# Altium footprint library CMX60D20.PCBLIB: 1 footprints
Each footprint in its own frame and in the unit in brackets; x right, y up, seen from the top. Pads: shape width x height; smd on the part's side, far side on the other; paste and mask are expansions set on the pad; w line width, h text height; cw(c..) or ccw(c..) is an arc to the next point about the centre after c.
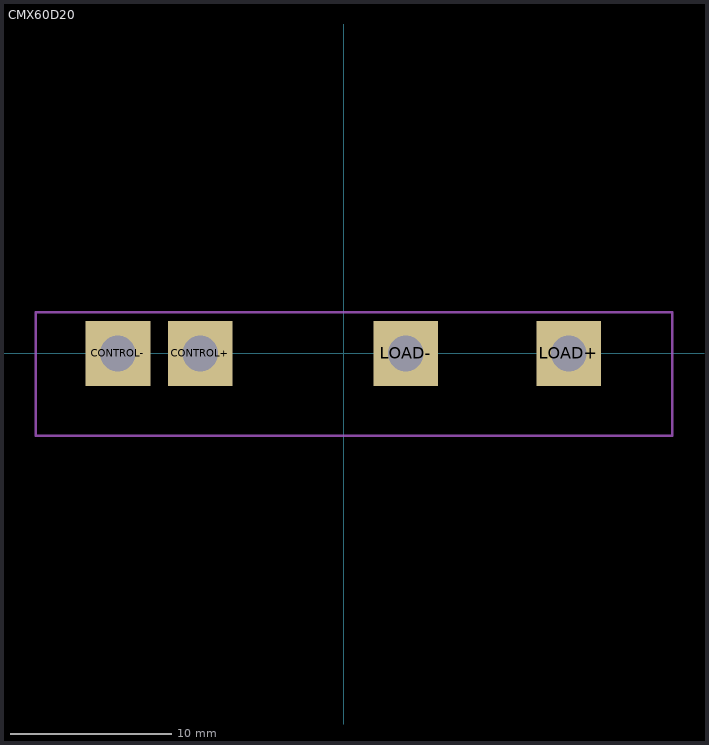
[diagram p0: the footprint, top view; thin cyan lines are the x and y axes]

## CMX60D20 [mm]
pads (4):
  rect 4x4 / inner round 3.696 / far side rect 4x4 hole 2.2: CONTROL+(-8.87,0) CONTROL-(-13.97,0) LOAD+(13.93,0) LOAD-(3.83,0)
tPlace:
  lines w0.152: -19.05,-5.08 20.32,-5.08 20.32,2.54 -19.05,2.54 -19.05,-5.08